# EAGLE library part 691412120007 (library Wuerth_Elektronik_eiCan_Terminal_Blocks_v2.0)
WR-TBL Serie 412 - 3.5mm Screwless 45° Entry Grey - 1.5mm2 Wires, 7 Pins
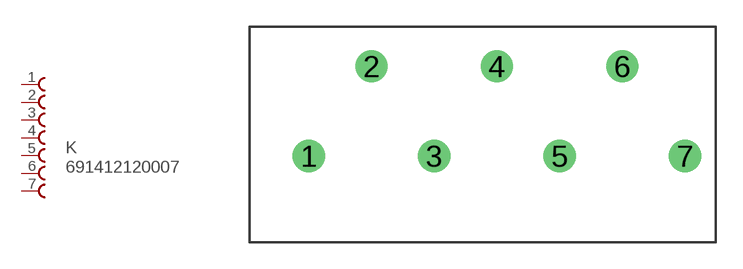
[diagram p214: symbol with the pads of 691412120007; footprint 691412120007]

Designator prefix K

## 691412120007  [691412120007]
1  1  pas
2  2  pas
3  3  pas
4  4  pas
5  5  pas
6  6  pas
7  7  pas

## Footprint 691412120007 (pad centres in mm)
WR-TBL Serie 412 - 3.5mm Screwless 45° Entry Grey - 1.5mm2 Wires, 7 Pins
drill 1.2 round: 1 -13.97,0; 2 -10.47,5; 3 -6.97,0; 4 -3.47,5; 5 0.03,0; 6 3.53,5; 7 7.03,0